# Altium footprint library Riedon.PcbLib: 1 footprints
Each footprint in its own frame and in the unit in brackets; x right, y up, seen from the top. Pads: shape width x height; smd on the part's side, far side on the other; paste and mask are expansions set on the pad; w line width, h text height; cw(c..) or ccw(c..) is an arc to the next point about the centre after c.
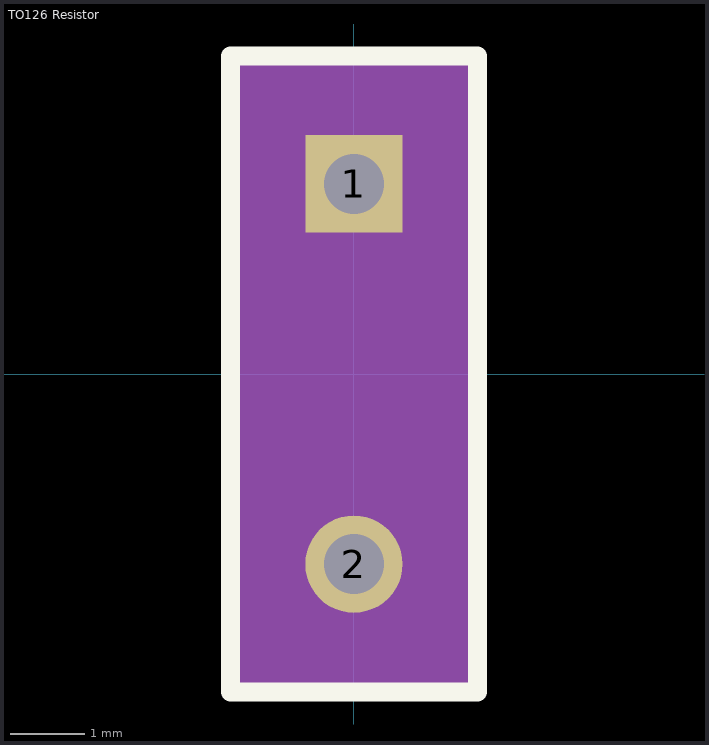
[diagram p0: the footprint, top view; thin cyan lines are the x and y axes]

## TO126 Resistor [mm]
pads (2):
  rect 1.3x1.3 hole 0.8: 1(0,2.54)
  round 1.3 hole 0.8: 2(0,-2.54)
Top Overlay:
  lines w0.254: -1.65,-4.25 1.651,-4.25 1.651,4.25 -1.65,4.25 -1.65,-4.25
Mechanical 13:
  rectangle: -1.65,-4.25 1.65,4.25
  text "'.Designator'" at -1.778,4.826 h0.7